# EAGLE library part HM01B0 (library chips)
ultra low power CMOS Image Sensor 320 x 320
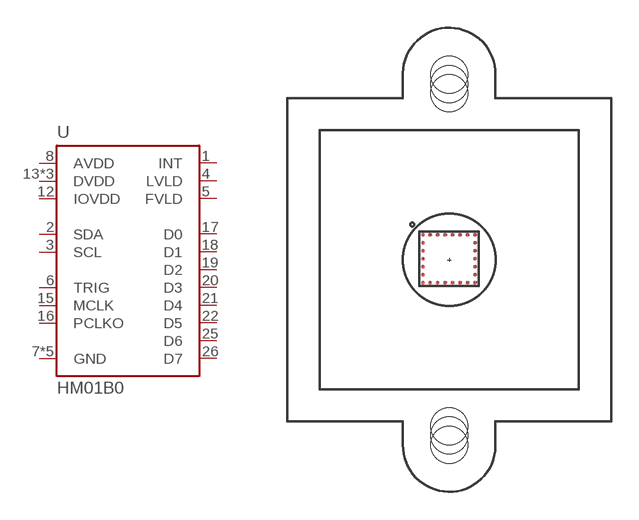
[diagram p95: symbol with the pads of NEOPAC-26; footprint NEOPAC-26]

Designator prefix U

## HM01B0-ANA (MPN: HMB01B0-ANA)  [NEOPAC-26]
1  INT
2  SDA
3  SCL
4  LVLD
5  FVLD
6  TRIG
7  GND
8  AVDD
9  GND
10  GND
11  GND
12  IOVDD
13  DVDD
14  DVDD
15  MCLK
16  PCLKO
17  D0
18  D1
19  D2
20  D3
21  D4
22  D5
23  DVDD
24  GND
25  D6
26  D7

## Footprint NEOPAC-26 (pad centres in mm)
NeoPAC 26 ball grid
smd 0.22 x 0.22: 1 -1.427,1.346; 2 -1.427,0.916; 3 -1.427,0.487; 4 -1.427,0.058; 5 -1.427,-0.371; 6 -1.427,-0.8; 7 -1.427,-1.23; 8 -1.024,-1.23; 9 -0.62,-1.23; 10 -0.217,-1.23; 11 0.187,-1.23; 12 0.591,-1.23; 13 0.994,-1.23; 14 1.398,-1.23; 15 1.398,-0.8; 16 1.398,-0.371; 17 1.398,0.058; 18 1.398,0.487; 19 1.398,0.916; 20 1.398,1.346; 21 0.994,1.346; 22 0.591,1.346; 23 0.187,1.346; 24 -0.217,1.346; 25 -0.62,1.346; 26 -1.024,1.346
hole 2 at 0,10
hole 2 at 0,-10
hole 2 at 0,9
hole 2 at 0,-9
hole 2 at 0,-9.5
hole 2 at 0,9.5